# Altium schematic symbol library C_0805.SchLib: 1 symbol
Pins are listed as number, name and electrical type; pins without a type are passive.

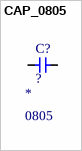
[diagram p0: symbol CAP_0805]

## CAP_0805
designator C?, comment ?  Package: 0805
Multilayer Ceramic Capacitors MLCC - SMD/SMT ROHS; Manufacturer: *; Manufacturer Part: *; Value: ?; LCSC: *; Voltage: *
footprint C0805
pins: 1, 2